# Altium footprint library ESD102E.PcbLib: 1 footprints
Each footprint in its own frame and in the unit in brackets; x right, y up, seen from the top. Pads: shape width x height; smd on the part's side, far side on the other; paste and mask are expansions set on the pad; w line width, h text height; cw(c..) or ccw(c..) is an arc to the next point about the centre after c.
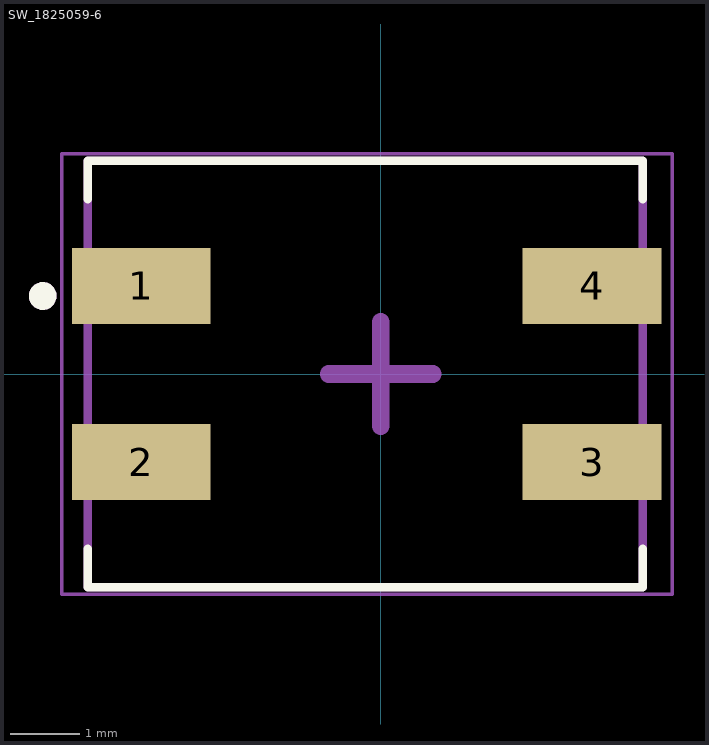
[diagram p0: the footprint, top view; thin cyan lines are the x and y axes]

## SW_1825059-6 [mm]
pads (4):
  rect 2x1.1 smd: 1(-3.455,1.27) 2(-3.455,-1.27) 3(3.045,-1.27) 4(3.045,1.27)
Top Overlay:
  circle w0.2: c-4.875,1.125 r0.1
  lines w0.127: -4.225,-2.524 -4.225,-3.075 3.775,-3.075 3.775,-2.524 ; -4.225,2.524 -4.225,3.075 3.775,3.075 3.775,2.524
Mechanical 13:
  circle w0.2: c-4.875,1.125 r0.1
  lines w0.127: -4.225,-3.075 -4.225,3.075 3.775,3.075 3.775,-3.075 -4.225,-3.075
Mechanical 15:
  lines w0.05: -4.6,-3.175 -4.6,3.175 4.2,3.175 4.2,-3.175 -4.6,-3.175
  lines w0.254: -0.75,0 0.75,0 ; 0,-0.75 0,0.75
3D body "Деталь2.STEP": height 3.8, standoff 0.03, extent -4.16,-3.01 3.71,3.01